# Altium footprint library hearing_aid.PcbLib: 26 footprints (part 2 of 2)
Each footprint in its own frame and in the unit in brackets; x right, y up, seen from the top. Pads: shape width x height; smd on the part's side, far side on the other; paste and mask are expansions set on the pad; w line width, h text height; cw(c..) or ccw(c..) is an arc to the next point about the centre after c.
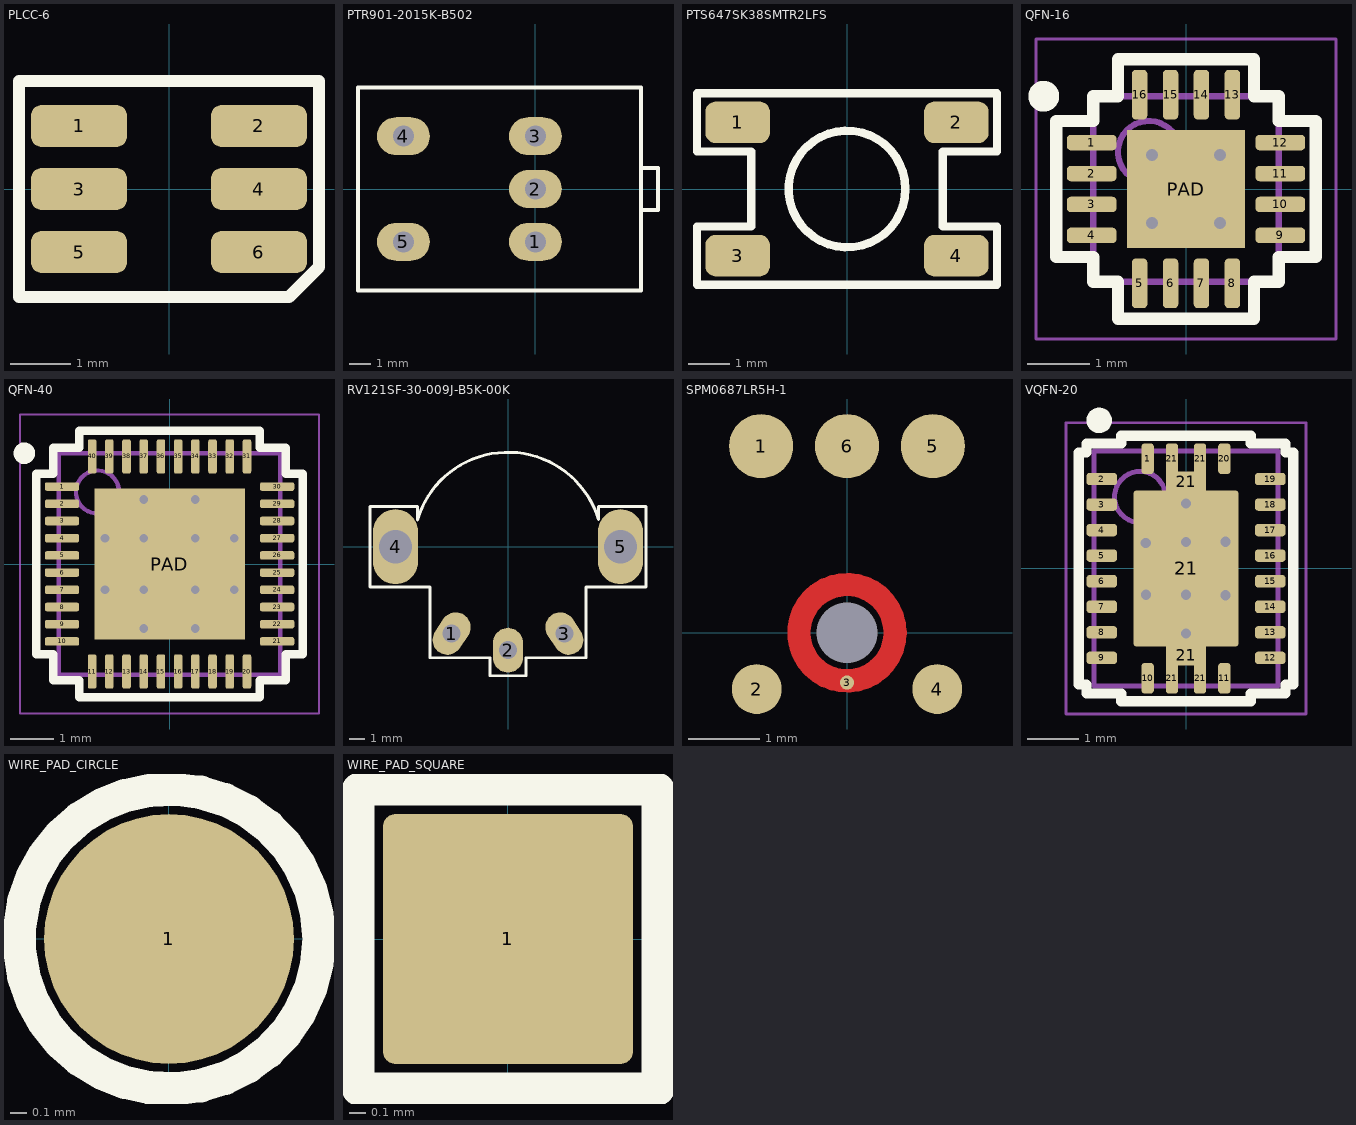
[diagram p1: the footprints below, top view; thin cyan lines are the x and y axes]

## PLCC-6 [mm]
pads (6):
  rrect50% 1.6x0.7 smd: 1(-1.5,1.05) 2(1.5,1.05) 3(-1.5,0) 4(1.5,0) 5(-1.5,-1.05) 6(1.5,-1.05)
Top Overlay:
  lines w0.2: -2.5,-1.8 -2.5,1.8 2.5,1.8 2.5,-1.3 2,-1.8 -2.5,-1.8
3D body "asmb-ttf0-0a20b.step": height 2.81, standoff 0.01, extent -1.85,-1.75 1.85,1.75

## PTR901-2015K-B502 [mm] "Potentiometer with switch"
pads (5):
  oval 2.5x1.8 hole 1: 1(0,-2.5) 2(0,0) 3(0,2.5) 4(-6.25,2.5) 5(-6.25,-2.5)
Top Overlay:
  lines w0.2: 5,-1 5.8,-1 5.8,1 5,1 ; -8.4,-4.8 -8.4,4.8 5,4.8 5,-4.8 -8.4,-4.8
3D body "ptr901-2015k-b502_potentiometer.sldprt": height 11.36, standoff -3.49, extent -8.4,-4.786 20,4.814

## PTS647SK38SMTR2LFS [mm]
pads (4):
  rrect50% 1.55x1 smd: 1(-2.625,1.6) 2(2.625,1.6) 3(-2.625,-1.6) 4(2.625,-1.6)
Top Overlay:
  circle w0.2: c0,0 r1.4
  lines w0.2: -3.6,-2.3 3.6,-2.3 3.6,-0.9 2.3,-0.9 2.3,0.9 3.6,0.9 3.6,2.3 -3.6,2.3 -3.6,0.9 -2.3,0.9 -2.3,-0.9 -3.6,-0.9 -3.6,-2.3
3D body "pts647sk38Smtr2lfs.step": height 3.8, standoff 0, extent -3.25,-2.25 3.25,2.25

## QFN-16 [mm]
height 0.65
pads (17):
  rrect50% 0.8x0.25 smd: 1(-1.525,0.75) 2(-1.525,0.25) 3(-1.525,-0.25) 4(-1.525,-0.75) 9(1.525,-0.75) 10(1.525,-0.25) 11(1.525,0.25) 12(1.525,0.75)
  rrect50% 0.25x0.8 smd: 5(-0.75,-1.525) 6(-0.25,-1.525) 7(0.25,-1.525) 8(0.75,-1.525) 13(0.75,1.525) 14(0.25,1.525) 15(-0.25,1.525) 16(-0.75,1.525)
  rect 1.9x1.9 smd: PAD(0,0)
via -0.55,0.55 diameter 0.5 hole 0.2
via 0.55,0.55 diameter 0.5 hole 0.2
via -0.55,-0.55 diameter 0.5 hole 0.2
via 0.55,-0.55 diameter 0.5 hole 0.2
Top Overlay:
  circle w0.25: c-2.3,1.5 r0.125
  lines w0.2: -2.1,-1.1 -1.5,-1.1 -1.5,-1.5 -1.1,-1.5 -1.1,-2.1 1.1,-2.1 1.1,-1.5 1.5,-1.5 1.5,-1.1 2.1,-1.1 2.1,1.1 1.5,1.1 1.5,1.5 1.1,1.5 1.1,2.1 -1.1,2.1 -1.1,1.5 -1.5,1.5 -1.5,1.1 -2.1,1.1 -2.1,-1.1
Mechanical 13:
  circle w0.1: c-0.6,0.6 r0.5
  lines w0.1: -1.5,-1.5 -1.5,1.5 1.5,1.5 1.5,-1.5 -1.5,-1.5
Mechanical 15:
  lines w0.05: -2.425,-2.425 -2.425,2.425 2.425,2.425 2.425,-2.425 -2.425,-2.425
  lines w0.1: -0.5,0 0.5,0 ; 0,-0.5 0,0.5
3D body "QFN-16.step": height 0.65, standoff 0, extent -1.501,-1.501 1.501,1.501

## QFN-40 [mm]
height 0.8
pads (41):
  rrect50% 0.8x0.2 smd: 1(-2.5,1.8) 2(-2.5,1.4) 3(-2.5,1) 4(-2.5,0.6) 5(-2.5,0.2) 6(-2.5,-0.2) 7(-2.5,-0.6) 8(-2.5,-1) 9(-2.5,-1.4) 10(-2.5,-1.8) 21(2.5,-1.8) 22(2.5,-1.4) 23(2.5,-1) 24(2.5,-0.6) 25(2.5,-0.2) 26(2.5,0.2) 27(2.5,0.6) 28(2.5,1) 29(2.5,1.4) 30(2.5,1.8)
  rrect50% 0.2x0.8 smd: 11(-1.8,-2.5) 12(-1.4,-2.5) 13(-1,-2.5) 14(-0.6,-2.5) 15(-0.2,-2.5) 16(0.2,-2.5) 17(0.6,-2.5) 18(1,-2.5) 19(1.4,-2.5) 20(1.8,-2.5) 31(1.8,2.5) 32(1.4,2.5) 33(1,2.5) 34(0.6,2.5) 35(0.2,2.5) 36(-0.2,2.5) 37(-0.6,2.5) 38(-1,2.5) 39(-1.4,2.5) 40(-1.8,2.5)
  rect 3.5x3.5 smd paste-5: PAD(0,0)
via 0.6,-1.5 diameter 0.5 hole 0.2
via 1.5,-0.6 diameter 0.5 hole 0.2
via -0.6,-0.6 diameter 0.5 hole 0.2
via 0.6,1.5 diameter 0.5 hole 0.2
via -0.6,1.5 diameter 0.5 hole 0.2
via 1.5,0.6 diameter 0.5 hole 0.2
via -1.5,0.6 diameter 0.5 hole 0.2
via -0.6,0.6 diameter 0.5 hole 0.2
via 0.6,0.6 diameter 0.5 hole 0.2
via -0.6,-1.5 diameter 0.5 hole 0.2
via -1.5,-0.6 diameter 0.5 hole 0.2
via 0.6,-0.6 diameter 0.5 hole 0.2
Top Overlay:
  circle w0.25: c-3.375,2.575 r0.125
  lines w0.2: -3.1,-2.1 -2.7,-2.1 -2.7,-2.7 -2.1,-2.7 -2.1,-3.1 2.1,-3.1 2.1,-2.7 2.7,-2.7 2.7,-2.1 3.1,-2.1 3.1,2.1 2.7,2.1 2.7,2.7 2.1,2.7 2.1,3.1 -2.1,3.1 -2.1,2.7 -2.7,2.7 -2.7,2.1 -3.1,2.1 -3.1,-2.1
Top Paste:
  rectangle: -1.7,0.7 -0.7,1.7
  rectangle: -0.5,0.7 0.5,1.7
  rectangle: 0.7,0.7 1.7,1.7
  rectangle: -0.5,-0.5 0.5,0.5
  rectangle: -1.7,-0.5 -0.7,0.5
  rectangle: -1.7,-1.7 -0.7,-0.7
  rectangle: -0.5,-1.7 0.5,-0.7
  rectangle: 0.7,-0.5 1.7,0.5
  rectangle: 0.7,-1.7 1.7,-0.7
Mechanical 13:
  circle w0.1: c-1.675,1.675 r0.5
  lines w0.1: -2.575,-2.575 -2.575,2.575 2.575,2.575 2.575,-2.575 -2.575,-2.575
Mechanical 15:
  lines w0.05: -3.475,-3.475 -3.475,3.475 3.475,3.475 3.475,-3.475 -3.475,-3.475
  lines w0.1: -0.5,0 0.5,0 ; 0,-0.5 0,0.5
3D body "QFN-40.step": height 0.8, standoff 0, extent -2.576,-2.576 2.576,2.576

## RV121SF-30-009J-B5K-00K [mm] "Potentiometer with switch"
height 8.1
pads (5):
  oval 2x3 hole 1.2 rot 147: 1(-3.758,-5.787)
  oval 2x3 hole 1.2: 2(0,-6.9)
  oval 2x3 hole 1.2 rot 33: 3(3.758,-5.787)
  oval 3x5 hole 2.2: 4(-7.5,0) 5(7.5,0)
Top Overlay:
  lines w0.2: -9.2,-2.7 -5.2,-2.7 -5.2,-7.4 -1.2,-7.4 -1.2,-8.6 1.2,-8.6 1.2,-7.4 5.2,-7.4 5.2,-2.7 9.2,-2.7 9.2,2.7 6.034,2.7 6.034,1.81 ccw(c0,0) -6.042,1.783 -6.042,2.7 -9.2,2.7 -9.2,-2.7
3D body "rv121sf-30-009j-b5k-00k_potentiometer.sldprt": height 8.1, standoff -2.5, extent -8.5,-7.4 8.5,6.25

## SPM0687LR5H-1 [mm] "MEMS Microphone"
pads (7):
  round 0.9 smd: 1(-1.204,2.616) 5(1.204,2.616) 6(0,2.616)
  round 0.7 smd: 2(-1.265,-0.79) 4(1.265,-0.79)
  round 0.2 smd paste-1 mask-1: 3(0,-0.7)
  round 0 hole 0.85 unplated: ""(0,0)
Top Layer:
  circle w0.326: c0,0 r0.675
Top Paste:
  lines w0.326: -0.675,0 ccw(c0,0) -0.477,-0.477 ; -0.477,0.477 cw(c0,0) 0,0.675 ; 0,-0.675 ccw(c0,0) 0.477,-0.477 ; 0.477,0.477 cw(c0,0) 0.675,0
3D body "spm0687lr5h-1.step": height 1.26, standoff 0.01, extent -1.879,-1.422 1.88,3.302

## VQFN-20 [mm] "VQFN, 24-Leads, Body 3.50x4.50mm, Pitch 0.50mm, Thermal Pad 2.05x3.05mm, IPC Medium Density"
height 1
pads (27):
  rrect50% 0.24x0.6 smd: 1(-0.75,2.15) 10(-0.75,-2.15) 11(0.75,-2.15) 20(0.75,2.15) 21(-0.275,-2.15) 21(-0.275,2.15) 21(0.275,-2.15) 21(0.275,2.15)
  rrect50% 0.6x0.24 smd: 2(-1.65,1.75) 3(-1.65,1.25) 4(-1.65,0.75) 5(-1.65,0.25) 6(-1.65,-0.25) 7(-1.65,-0.75) 8(-1.65,-1.25) 9(-1.65,-1.75) 12(1.65,-1.75) 13(1.65,-1.25) 14(1.65,-0.75) 15(1.65,-0.25) 16(1.65,0.25) 17(1.65,0.75) 18(1.65,1.25) 19(1.65,1.75)
  rect 0.79x0.4 smd paste-5: 21(0,-1.7) 21(0,1.7)
  rrect5% 2.05x3.05 smd paste-5: 21(0,0)
via 0,0.516 diameter 0.45 hole 0.2
via -0.787,0.501 diameter 0.45 hole 0.2
via -0.781,-0.516 diameter 0.45 hole 0.2
via 0,1.275 diameter 0.45 hole 0.2
via 0.775,-0.525 diameter 0.45 hole 0.2
via 0.775,0.525 diameter 0.45 hole 0.2
via 0,-0.516 diameter 0.45 hole 0.2
via 0,-1.275 diameter 0.45 hole 0.2
Top Overlay:
  circle w0.25: c-1.7,2.9 r0.125
  lines w0.2: -2.1,-2.27 -1.95,-2.27 -1.95,-2.45 -1.27,-2.45 -1.27,-2.6 1.27,-2.6 1.27,-2.45 1.95,-2.45 1.95,-2.27 2.1,-2.27 2.1,2.27 1.95,2.27 1.95,2.45 1.27,2.45 1.27,2.6 -1.27,2.6 -1.27,2.45 -1.95,2.45 -1.95,2.27 -2.1,2.27 -2.1,-2.27
Top Paste:
  region: 0.4,-1.7 -0.4,-1.7 -0.4,-1.95 0.4,-1.95
  rectangle: -0.4,1.7 0.4,1.95
  rectangle: -1.02,-0.425 -0.1,0.425
  rectangle: -1.02,0.625 -0.1,1.475
  rectangle: -1.02,-1.475 -0.1,-0.625
  rectangle: 0.1,-1.475 1.02,-0.625
  rectangle: 0.1,0.625 1.02,1.475
  rectangle: 0.1,-0.425 1.02,0.425
Mechanical 13:
  circle w0.1: c-0.9,1.4 r0.5
  lines w0.1: -1.8,-2.3 -1.8,2.3 1.8,2.3 1.8,-2.3 -1.8,-2.3
Mechanical 15:
  lines w0.05: -2.35,-2.85 -2.35,2.85 2.35,2.85 2.35,-2.85 -2.35,-2.85
  lines w0.1: -0.5,0 0.5,0 ; 0,-0.5 0,0.5
3D body "VQFN-20.step": height 1, standoff 0, extent -1.88,-2.38 1.88,2.38

## WIRE_PAD_CIRCLE [mm]
pads (1):
  round 1.5 smd paste-2: 1(0,0)
Top Overlay:
  circle w0.2: c0,0 r0.9
3D body: height 0.1, standoff 0, extent -0.75,-0.749 0.744,0.749

## WIRE_PAD_SQUARE [mm]
pads (1):
  rrect10% 1.5x1.5 smd paste-2: 1(0,0)
Top Overlay:
  lines w0.2: -0.9,-0.9 -0.9,0.9 0.9,0.9 0.9,-0.9 -0.9,-0.9
3D body: height 0.1, standoff 0, extent -0.75,-0.75 0.75,0.75